# EAGLE library part MCP23S17 (library MCP23x17)
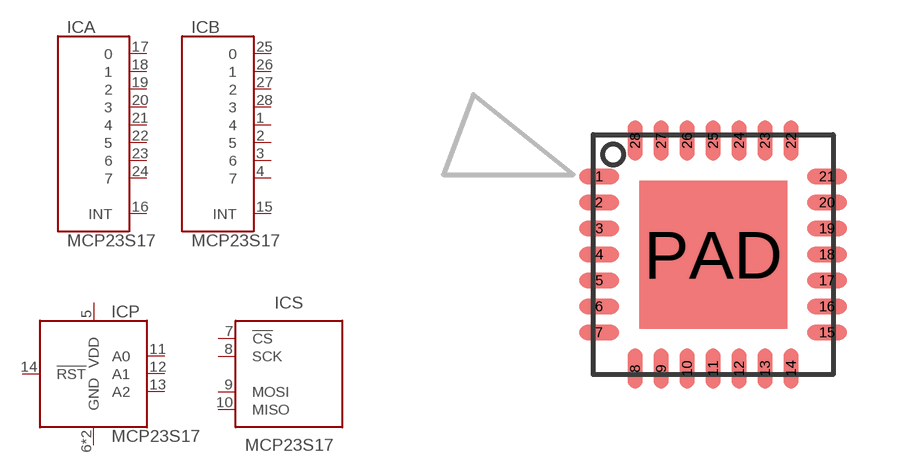
[diagram p0: symbol with the pads of QFN28-0.65; footprint QFN28-0.65]

Designator prefix IC; gates A=GPIO B=GPIO P=PWR-RST-ADDR S=SPI-IO

## MCP23S17-E/ML (MARK: 23S17 E/ML; MF: Microchip; MPN: MCP23S17-E/ML)  [QFN28-0.65]
1  B:4
2  B:5
3  B:6
4  B:7
5  P:VDD  pwr
6  P:GND  pwr
7  S:!CS  in
8  S:SCK  in
9  S:MOSI
10  S:MISO  out
11  P:A0  in
12  P:A1  in
13  P:A2  in
14  P:!RST  in
15  B:INT
16  A:INT
17  A:0
18  A:1
19  A:2
20  A:3
21  A:4
22  A:5
23  A:6
24  A:7
25  B:0
26  B:1
27  B:2
28  B:3
PAD  P:GND  pwr

## Footprint QFN28-0.65 (pad centres in mm)
smd 1 x 0.37: 1 -2.85,1.95; 2 -2.85,1.3; 3 -2.85,0.65; 4 -2.85,0; 5 -2.85,-0.65; 6 -2.85,-1.3; 7 -2.85,-1.95; 15 2.85,-1.95; 16 2.85,-1.3; 17 2.85,-0.65; 18 2.85,0; 19 2.85,0.65; 20 2.85,1.3; 21 2.85,1.95
smd 0.37 x 1: 8 -1.95,-2.85; 9 -1.3,-2.85; 10 -0.65,-2.85; 11 0,-2.85; 12 0.65,-2.85; 13 1.3,-2.85; 14 1.95,-2.85; 22 1.95,2.85; 23 1.3,2.85; 24 0.65,2.85; 25 0,2.85; 26 -0.65,2.85; 27 -1.3,2.85; 28 -1.95,2.85
smd 3.7 x 3.7: PAD 0,0